# EAGLE library part MOLEX_52465_B2B_RECEPTACLE_20 (library m_connector)
Molex 0.80mm Pitch Board-to-Board Receptacle, Surface Mount, Dual Row, 20 Circuits General Status Active Category PCB Receptacles Series 52465 <listview.jsp?query=52465&sType=s&part=active/0524652071_PCB_RECEPTACLES.xml> Application Board-to-Board, Signal Product Name N/A UPC 822348142972 Physical Circuits (Loaded) 20 Circuits (maximum) 20 Color - Resin Natural Durability (mating cycles max) 30 Glow-Wire Compliant No Mated Height 4.50mm, 5.65mm, 7.00mm Material - Metal Phosphor Bronze Material - Plating Mating Tin Material - Plating Termination Tin Material - Resin High Temperature Thermoplastic Net Weight 207.400/mg Number of Rows 2 Orientation Vertical PCB Locator No PCB Retention None PCB Thickness - Recommended 1.60mm Packaging Type Embossed Tape on Reel Pitch - Mating Interface 0.80mm Plating min - Mating 1.016µm Plating min - Termination 1.016µm Polarized to PCB No Surface Mount Compatible (SMC) N/A Temperature Range - Operating -20°C to +105°C Termination Interface: Style Surface Mount Electrical (Please review the Product Specification for specific details.) Current - Maximum per Contact 0.5A Voltage - Maximum 50V Material Info Reference - Drawing Numbers Packaging Specification SPK-52465-002 Product Specification PS-52465-010, PS-52465-014, PS-52465-015, RPS-52465-042, RPS-52465-044, RPS-52465-045, RPS-52465-047, RPS-52465-048, RPS-52465-049, RPS-52465-052, RPS-52465-055, RPS-52465-058 Sales Drawing SD-52465-028, SD-52465-029 Created 2015-08-01 Product homepage: http://www.molex.com/molex/products/datasheet.jsp?part=active/0524652071_PCB_RECEPTACLES.xml
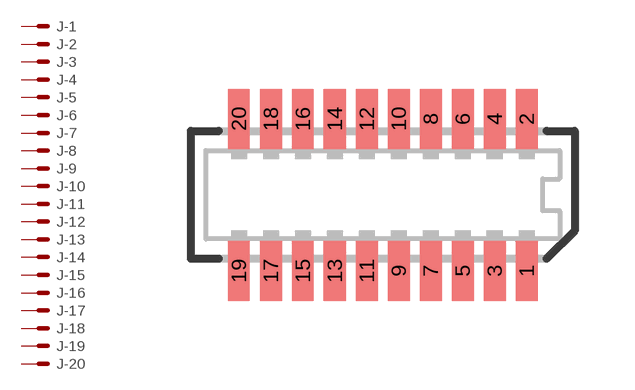
[diagram p8: symbol with the pads of MOLEX_52465-2071; footprint MOLEX_52465-2071]

Designator prefix J; gates -1=M -2=M -3=M -4=M -5=M -6=M -7=M -8=M -9=M -10=M -11=M -12=M -13=M -14=M -15=M -16=M -17=M -18=M -19=M -20=M

## MOLEX_52465_B2B_RECEPTACLE_20 (MANUF: Molex; PARTNUM: 52465-2071)  [MOLEX_52465-2071]
1  -1:S  pas
2  -2:S  pas
3  -3:S  pas
4  -4:S  pas
5  -5:S  pas
6  -6:S  pas
7  -7:S  pas
8  -8:S  pas
9  -9:S  pas
10  -10:S  pas
11  -11:S  pas
12  -12:S  pas
13  -13:S  pas
14  -14:S  pas
15  -15:S  pas
16  -16:S  pas
17  -17:S  pas
18  -18:S  pas
19  -19:S  pas
20  -20:S  pas

## Footprint MOLEX_52465-2071 (pad centres in mm)
Molex Part Number: 52465-1071 Board-to-Board Receptacle 0.80mm Pitch Board-to-Board Receptacle, Surface Mount, Dual Row, 10 Circuits Created 2015-08-01 Product homepage: http://www.molex.com/molex/products/datasheet.jsp?part=active/0524651071_PCB_RECEPTACLES.xml
smd 0.55 x 1.5: 1 3.6,-1.9; 2 3.6,1.9; 3 2.8,-1.9; 4 2.8,1.9; 5 2,-1.9; 6 2,1.9; 7 1.2,-1.9; 8 1.2,1.9; 9 0.4,-1.9; 10 0.4,1.9; 11 -0.4,-1.9; 12 -0.4,1.9; 13 -1.2,-1.9; 14 -1.2,1.9; 15 -2,-1.9; 16 -2,1.9; 17 -2.8,-1.9; 18 -2.8,1.9; 19 -3.6,-1.9; 20 -3.6,1.9